# EAGLE library part BMI270 (library BMI270)
IMUs - Inertial Measurement Units Smart Ultra-Low Power Inertial Measurement Unit (IMU) for Wearable Applications Source: Datasheet <https://www.bosch-sensortec.com/media/boschsensortec/downloads/datasheets/bst-bmi270-ds000.pdf>
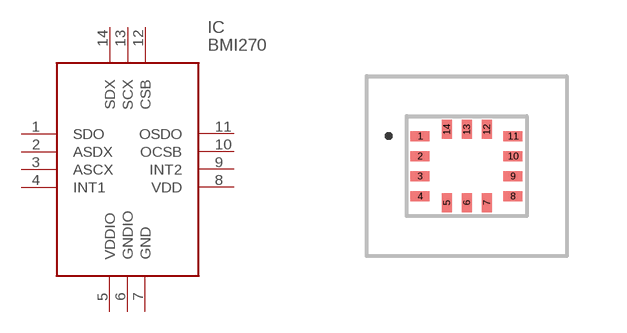
[diagram p0: symbol with the pads of BMI270; footprint BMI270]

Designator prefix IC

## BMI270 (Description: IMUs - Inertial Measurement Units Smart Ultra-Low Power Inertial Measurement Unit (IMU) for Wearable Applications; Height: 0.87mm; Manufacturer_Name: BOSCH; Manufacturer_Part_Number: BMI270; Mouser_Part_Number: 262-BMI270; Mouser_Price-Stock: https://www.mouser.co.uk/ProductDetail/Bosch-Sensortec/BMI270?qs=u16ybLDytRYIj%252BjQEee88A%3D%3D)  [BMI270]
1  SDO
2  ASDX
3  ASCX
4  INT1
5  VDDIO
6  GNDIO
7  GND
8  VDD
9  INT2
10  OCSB
11  OSDO
12  CSB
13  SCX
14  SDX

## Footprint BMI270 (pad centres in mm)
14 pin LGA
smd 0.475 x 0.25: 1 -1.163,0.75; 2 -1.163,0.25; 3 -1.163,-0.25; 4 -1.163,-0.75; 8 1.162,-0.75; 9 1.162,-0.25; 10 1.162,0.25; 11 1.162,0.75
smd 0.25 x 0.475: 5 -0.5,-0.913; 6 0,-0.913; 7 0.5,-0.913; 12 0.5,0.913; 13 0,0.913; 14 -0.5,0.913